# Altium schematic symbol library Led & Displays.SchLib: 29 symbols
Pins are listed as number, name and electrical type; pins without a type are passive.

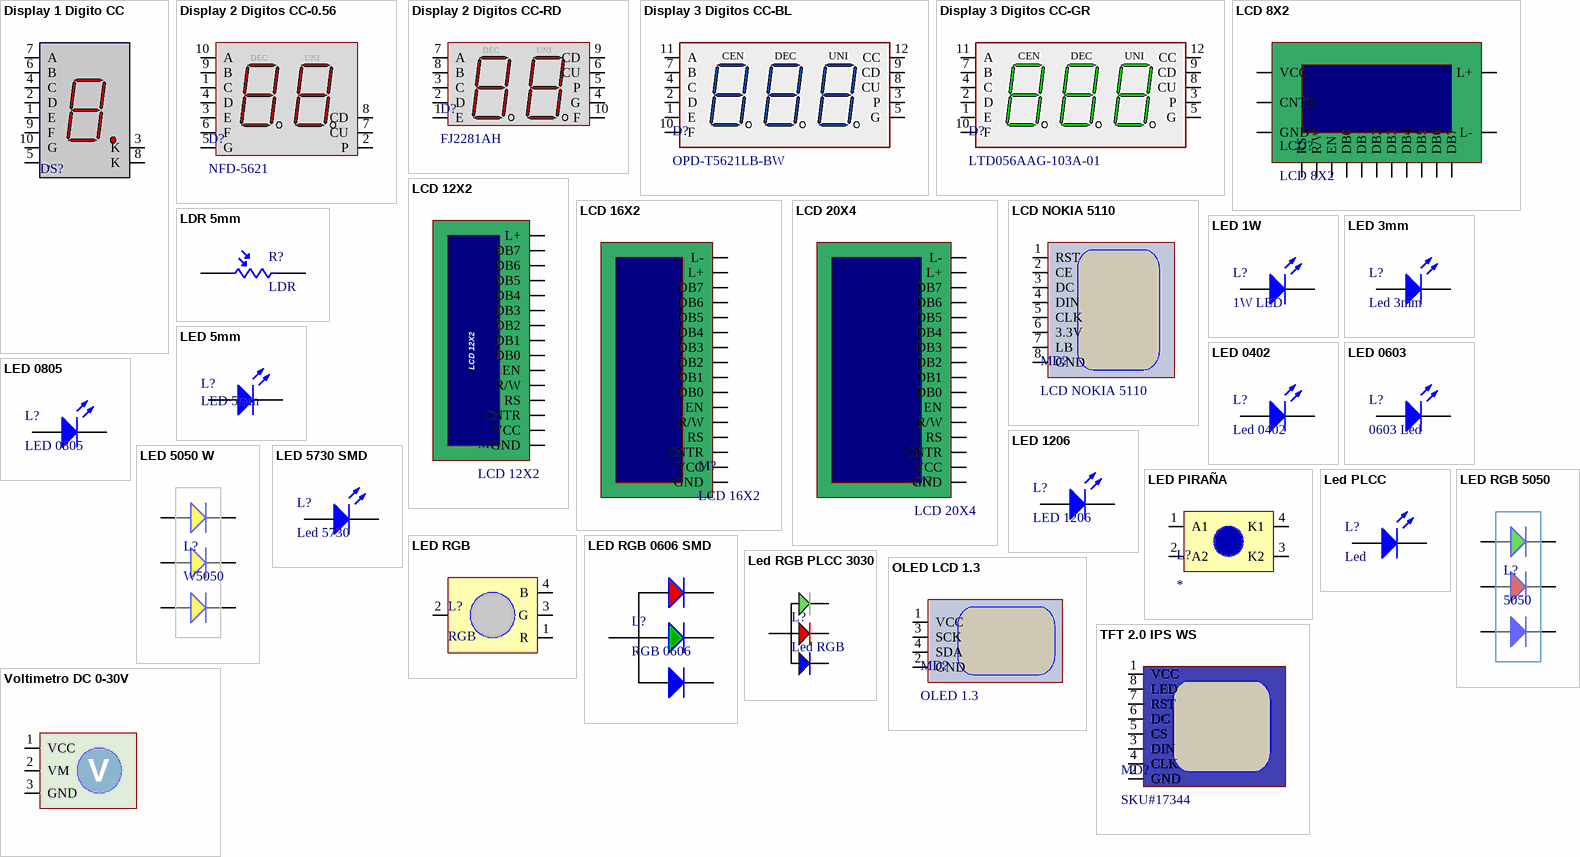
[diagram p0: symbols Display 1 Digito CC to Voltimetro DC 0-30V]

## Display 1 Digito CC
designator DS?
Display 7 Segmentos 1 Digito Cátodo Común 0.56"; MinimumIntensity: 360 ucd; Note: IF = 5 mA; Colour: High Efficiency Red (HER); Note: Pins 1 and 6 are redundant Cathodes.; Published: 8-Jun-2000; LatestRevisionDate: 17-Dec-2003; LatestRevisionNote: Schematic revised, PCB Footprint replaced.; DatasheetVersion: 19-Feb-2002; PackageVersion: 11-Feb-2002; PackageReference: A; Publisher: Altium Limited; PackageDescription: LED, 7-Segment Display, 7.62 mm, RHD; 10 Leads; Row Space 5.08 mm; Pitch 2.54 mm; ComponentLink1Description: Manufacturer Link; ComponentLink1URL: http://www.agilent.com/
footprint Display 1D 0.56 (Display 7 segmentos 1 Digito 0.56")
pins: 1 E "Anode", 2 D "Anode", 3 K "Anode", 4 C "Anode", 5 . "Anode", 6 B "Anode", 7 A "Anode", 8 K "Anode", 9 F "Anode", 10 G "Anode"

## Display 2 Digitos CC-0.56
designator D?, comment NFD-5621
Display 7 Segmentos 2 Digitos 0.56" NFD-5621
footprint Display 2D 0.56 (Display 7 segmentos 2 Digito 0.56" Mux)
pins: 1 C, 2 P, 3 E, 4 D, 5 G, 6 F, 7 CU, 8 CD, 9 B, 10 A
text: DEC; UNI

## Display 2 Digitos CC-RD
designator D?, comment FJ2281AH
Display 7 Segmentos 2 Digitos 0.28" LTD-2601
footprint Display 7 Segmentos 2D 0.28 (Display 7 Segmentos 2 Digitos 0.28 Inch)
pins: 1 E, 2 D, 3 C, 4 G, 5 P, 6 CU, 7 A, 8 B, 9 CD, 10 F
text: DEC; UNI

## Display 3 Digitos CC-BL
designator D?, comment OPD-T5621LB-BW
Display 7 Segmentos 3 Digitos
footprint Display 7 Segmentos 3D (Display 7 Segmentos 3 Digitos)
pins: 1 E, 2 D, 3 P, 4 C, 5 G, 7 B, 8 CU, 9 CD, 10 F, 11 A, 12 CC
text: CEN; DEC; UNI

## Display 3 Digitos CC-GR
designator D?, comment LTD056AAG-103A-01
Display 7 Segmentos 3 Digitos
footprint Display 7 Segmentos 3D (Display 7 Segmentos 3 Digitos)
pins: 1 E, 2 D, 3 P, 4 C, 5 G, 7 B, 8 CU, 9 CD, 10 F, 11 A, 12 CC
text: CEN; DEC; UNI

## LCD 8X2
designator LCD?
LCD Alfanumérico 8x2
footprint LCD 8X2 (Full LCD Component)
pins: 1 GND, 2 VCC, 3 CNTR, 4 RS, 5 R/W, 6 EN, 7 DB0, 8 DB1, 9 DB2, 10 DB3, 11 DB4, 12 DB5, 13 DB6, 14 DB7, 15 L+, 16 L-

## LCD 12X2
designator M?
LCD Alfanumérico 12x2
footprint LCD 12X2 (Full LCD Component)
pins: 1 GND, 2 VCC, 3 CNTR, 4 RS, 5 R/W, 6 EN, 7 DB0, 8 DB1, 9 DB2, 10 DB3, 11 DB4, 12 DB5, 13 DB6, 14 DB7, 15 L+

## LCD 16X2
designator M?
LCD Alfanumérico 16x2
footprint LCD 16X2 (Full LCD Component)
pins: 1 GND, 2 VCC, 3 CNTR, 4 RS, 5 R/W, 6 EN, 7 DB0, 8 DB1, 9 DB2, 10 DB3, 11 DB4, 12 DB5, 13 DB6, 14 DB7, 15 L+, 16 L-

## LCD 20X4
designator M?
LCD Alfanumérico 20x4
footprint LCD 20X4 (Full LCD Component)
pins: 1 GND, 2 VCC, 3 CNTR, 4 RS, 5 R/W, 6 EN, 7 DB0, 8 DB1, 9 DB2, 10 DB3, 11 DB4, 12 DB5, 13 DB6, 14 DB7, 15 L+, 16 L-

## LCD NOKIA 5110
designator MD?
Graphic LCD
footprint LCD NOKIA 5110 (LCD Gráfica 5110 Nokia)
pins: 1 RST, 2 CE, 3 DC, 4 DIN, 5 CLK, 6 3.3V, 7 LB, 8 GND

## LDR 5mm
designator R?, comment LDR
Resistencia Variable
footprint LDR 5mm (Resistencia Variable LDR)
pins: 1, 2

## LED 1W
designator L?, comment 1W LED
LED SMD 1W
footprint LED 1W (Led 1W)
pins: 1 A, 2 K

## LED 3mm
designator L?, comment Led 3mm
Led Estándar 3mm
footprint LED 3mm Amarillo (LED estándar 3mm)
footprint LED 3mm Amarillo 20mm (LED estándar 3mm)
footprint LED 3mm azul (LED estándar 3mm)
footprint LED 3mm azul 20mm (LED estándar 3mm)
footprint LED 3mm rojo (LED estándar 3mm)
footprint LED 3mm rojo 20mm (LED estándar 3mm)
footprint LED 3mm Verde (LED estándar 3mm)
footprint LED 3mm Verde 20mm (LED estándar 3mm)
pins: 1 A, 2 K

## LED 5mm
designator L?
Led Estandar
footprint LED 5mm AZUL (LED 5mm AZUL TROUGH HOLE)
footprint LED 5mm Amarillo (LED 5mm Amarillo TH)
footprint LED 5mm Blanco (LED 5mm Blanco TH)
footprint LED 5mm Naranaja (LED 5mm Naranja TH)
footprint LED 5mm rojo (LED 5mm rojo TH)
footprint LED 5mm Verde (LED 5mm verde TH)
pins: 1 A, 2 K

## LED 0402
designator L?, comment Led 0402
LED SMD 0402
footprint LED 0402 (LED SMD 0402)
pins: 1 A, 2 K

## LED 0603
designator L?, comment 0603 Led
Led SMD 0603
footprint LED 0603 AMARILLO (LED 0603 YELLOW SMD)
footprint LED 0603 AZUL (LED 0603 BLUE SMD)
footprint LED 0603 BLANCO (LED 0603 WHITE SMD)
footprint LED 0603 NARANJA (LED 0603 ORANGE SMD)
footprint LED 0603 ROJO (LED 0603 RED SMD)
footprint LED 0603 VERDE (LED 0603 GREEN SMD)
pins: 1 A, 2 K

## LED 0805
designator L?
LED SMD 0805
footprint Led 0805 Y (Led SMD 0805)
footprint Led 0805 Blue (Led SMD 0805 Azul)
footprint Led 0805 Green (Led SMD 0805 Verde)
footprint Led 0805 Red (Led SMD 0805 Rojo)
pins: 1 A, 2 K

## LED 1206
designator L?
LED SMD 1206
footprint LED 1206 G (Led SMD 1206)
footprint LED 1206 R
footprint LED 1206 Y
pins: 1 A, 2 K

## LED 5050 W
designator L?, comment W5050
LED Blanco 5050
footprint Led 5050 W
pins: 1 V+, 2 R+, 3 A+, 4 V-, 5 R-, 6 A-

## LED 5730 SMD
designator L?, comment Led 5730
SMD 0.5W Led 5730
footprint LED 5730 (SMD LED)
pins: 1 A, 2 K

## LED PIRAÑA
designator L?
Led TH p
footprint LED PIRAÑA
pins: 1 A1, 2 A2, 3 K2, 4 K1

## Led PLCC
designator L?, comment Led
Led SMD PLCC
footprint LED PLCC (Led PLCC SMD 2.2x1.4)
pins: 1 A, 2 K

## LED RGB
designator L?, comment RGB
5mm Led RGB
footprint LED RGB (LED RGB 5mm)
pins: 1 R, 2 COM, 3 G, 4 B

## LED RGB 0606 SMD
designator L?, comment RGB 0606
LED SMD RGB 0606
footprint LED RGB 0606 (SMD Led RGB 0606)
pins: 1 R, 2 G, 3 B, 4 CM

## LED RGB 5050
designator L?, comment 5050
LED SMD RGB 5050
footprint Led 5050 RGB
pins: 1 V+, 2 R+, 3 A+, 4 V-, 5 R-, 6 A-

## Led RGB PLCC 3030
designator L?, comment Led RGB
RGB Led
footprint RGB LED PLCC 3030 (LEd RGB Plcc)
pins: 1 LB, 2 LG, 3 A, 4 LR

## OLED LCD 1.3
designator MD?, comment OLED 1.3
Graphic LCD OLED 1.3 Inch I2C
footprint Oled Display 1.3 (Oled Display I2C 1.3 Inch Module)
pins: 1 VCC, 2 GND, 3 SCK, 4 SDA

## TFT 2.0 IPS WS
designator MD?, comment SKU#17344
Graphic LCD TFT IPS WAVESHARE 17344
footprint TFT 2.0 WS17344 (TFT IPS Display 2.0 Inch Waveshare 17344)
pins: 1 VCC, 2 GND, 3 DIN, 4 CLK, 5 CS, 6 DC, 7 RST, 8 LED

## Voltimetro DC 0-30V
designator MD?, comment Volt-Meter
Módulo Voltímetro 3 Hilos DC 0-30V
footprint Voltimetro DC (Medidor de Voltaje DC 0-30V 2Pin)
pins: 1 VCC, 2 VM, 3 GND
text: V